# EAGLE library part RFM12S (library jasons_stuff)
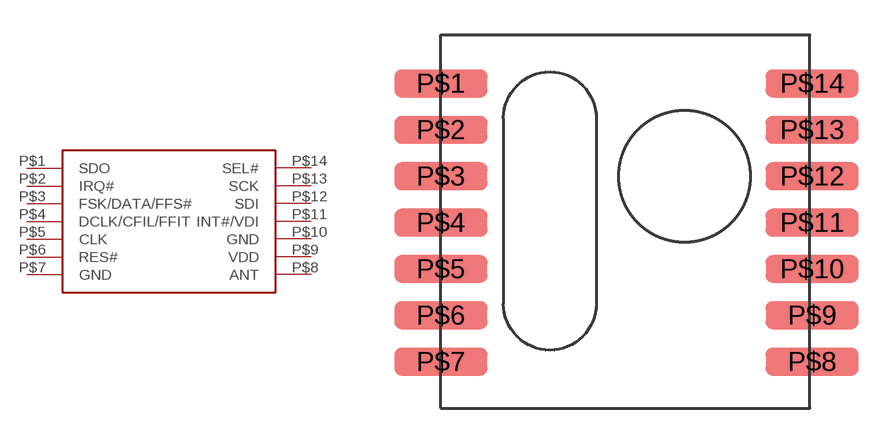
[diagram p34: symbol with the pads of RFM12S; footprint RFM12S]

Designator prefix -

## RFM12S  [RFM12S]
P$1  SDO
P$2  IRQ#
P$3  FSK/DATA/FFS#
P$4  DCLK/CFIL/FFIT
P$5  CLK
P$6  RES#
P$7  GND  pwr
P$8  ANT
P$9  VDD  pwr
P$10  GND  pwr
P$11  INT#/VDI
P$12  SDI
P$13  SCK
P$14  SEL#

## Footprint RFM12S (pad centres in mm)
smd 4 x 1.2: P$1 0,14; P$2 0,12; P$3 0,10; P$4 0,8; P$5 0,6; P$6 0,4; P$7 0,2; P$8 16,2; P$9 16,4; P$10 16,6; P$11 16,8; P$12 16,10; P$13 16,12; P$14 16,14